# Altium footprint library L7805CV.PcbLib: 1 footprints
Each footprint in its own frame and in the unit in brackets; x right, y up, seen from the top. Pads: shape width x height; smd on the part's side, far side on the other; paste and mask are expansions set on the pad; w line width, h text height; cw(c..) or ccw(c..) is an arc to the next point about the centre after c.
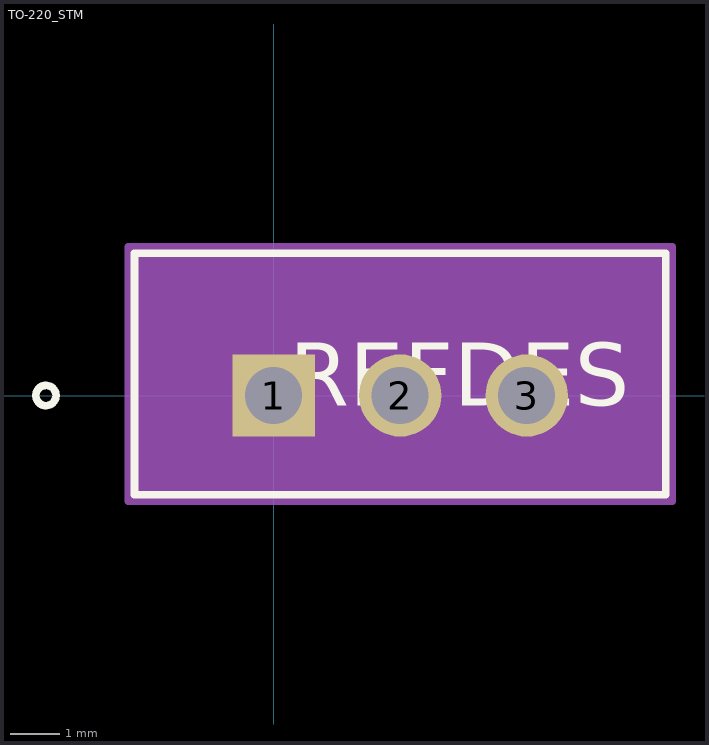
[diagram p0: the footprint, top view; thin cyan lines are the x and y axes]

## TO-220_STM [mil]
pads (3):
  rect 65x65 / inner round 60 / far side rect 65x65 hole 45 paste-32.5 mask-32.5: 1(0,0)
  round 65 / inner round 60 / far side round 65 hole 45 paste-32.5 mask-32.5: 2(100,0) 3(200,0)
Top Overlay:
  circle w6: c-180,0 r8
  lines w6: -110,-78.5 310,-78.5 310,112.5 -110,112.5 -110,-78.5
  text "REFDES" at 12.5,-8 h50
Mechanical 13:
  circle w0: c-85,0 r8
  lines w1: -105,-73.5 305,-73.5 305,107.5 -105,107.5 -105,-73.5
  lines w6: -10,0 10,0 ; 0,-10 0,10
  text "RefDes2" at 12.5,-8 h50
Mechanical 15:
  region: 315,-83.5 -115,-83.5 -115,117.5 315,117.5
  lines w6: -115,-83.5 -115,117.5 315,117.5 315,-83.5 -115,-83.5
3D body "TO-220_STM.step": height 775.98, standoff -255, extent -105,-73.5 305,107.52